# EAGLE library part TPIC6B595 (library Public)
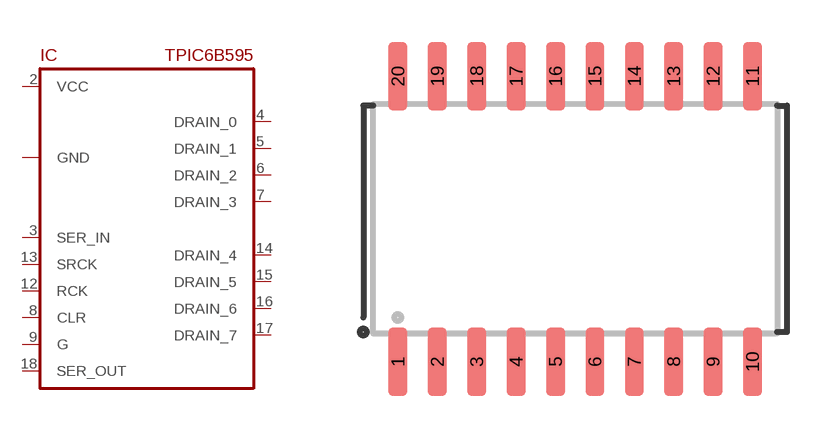
[diagram p176: symbol with the pads of SO20; footprint SO20]

Designator prefix IC

## TPIC6B595  [SO20]
2  VCC
3  SER_IN
4  DRAIN_0
5  DRAIN_1
6  DRAIN_2
7  DRAIN_3
8  CLR
9  G
10  GND
11  GND
12  RCK
13  SRCK
14  DRAIN_4
15  DRAIN_5
16  DRAIN_6
17  DRAIN_7
18  SER_OUT
19  GND

## Footprint SO20 (pad centres in mm)
smd 0.6 x 2.2: 1 -5.715,-4.6; 2 -4.445,-4.6; 3 -3.175,-4.6; 4 -1.905,-4.6; 5 -0.635,-4.6; 6 0.635,-4.6; 7 1.905,-4.6; 8 3.175,-4.6; 9 4.445,-4.6; 10 5.715,-4.6; 11 5.715,4.6; 12 4.445,4.6; 13 3.175,4.6; 14 1.905,4.6; 15 0.635,4.6; 16 -0.635,4.6; 17 -1.905,4.6; 18 -3.175,4.6; 19 -4.445,4.6; 20 -5.715,4.6